# Altium schematic symbol library PCF85063AT_AAZ.SchLib: 1 symbol
Pins are listed as number, name and electrical type; pins without a type are passive.

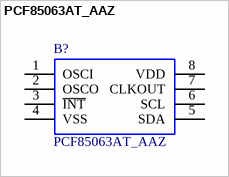
[diagram p0: symbol PCF85063AT_AAZ]

## PCF85063AT_AAZ
designator B?
Real Time Clock Low Power Real time clocks; Manufacturer_Name: NXP; Manufacturer_Part_Number: PCF85063AT/AAZ; Geometry.Height: 1.75mm; Mouser Part Number: 771-PCF85063AT/AAZ; Mouser Price/Stock: https://www.mouser.co.uk/ProductDetail/NXP-Semiconductors/PCF85063AT-AAZ?qs=sV%252BQJnSpgu9E5WpV9lmUdg%3D%3D; Arrow Part Number: PCF85063AT/AAZ; Arrow Price/Stock: https://www.arrow.com/en/products/pcf85063ataaz/nxp-semiconductors?region=nac; Datasheet Link: http://www.nxp.com/docs/en/data-sheet/PCF85063A.pdf
footprint SOIC127P600X175-8N
pins: 1 OSCI, 2 OSCO, 3 ~{INT}, 4 VSS, 5 SDA, 6 SCL, 7 CLKOUT, 8 VDD